# EAGLE library part USB-OVERCURRENT (library Airbeam)
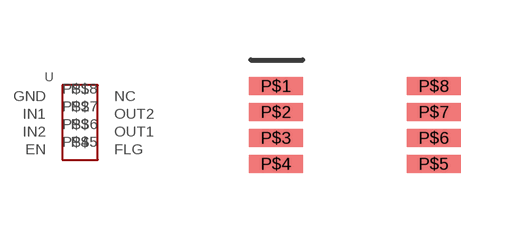
[diagram p5: symbol with the pads of MSOP-8; footprint MSOP-8]

Designator prefix -

## USB-OVERCURRENT (PARTNO: AP2161DM8G-13)  [MSOP-8]
P$1  GND  pwr
P$2  IN1
P$3  IN2
P$4  EN  in
P$5  FLG
P$6  OUT1
P$7  OUT2
P$8  NC  nc

## Footprint MSOP-8 (pad centres in mm)
smd 1.35 x 0.45: P$1 -1.975,0.975; P$2 -1.975,0.325; P$3 -1.975,-0.325; P$4 -1.975,-0.975; P$5 1.975,-0.975; P$6 1.975,-0.325; P$7 1.975,0.325; P$8 1.975,0.975